# EAGLE library part 12-WAY (library pimoroni-headers)
Header 12 Standard 12-pin 0.1" header. Use with straight break away headers (SKU : PRT-00116), right angle break away headers (PRT-00553), swiss pins (PRT-00743), machine pins (PRT-00117), and female headers (PRT-00115).
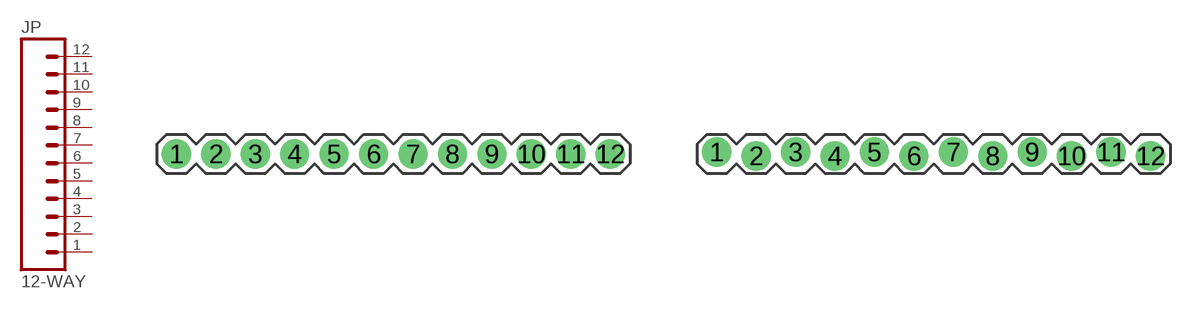
[diagram p3: symbol with the pads of 1X12; footprints 1X12, 1X12-LOCK-MALE]

Designator prefix JP

## 12-WAY-MALE  [1X12]
1  1  pas
2  2  pas
3  3  pas
4  4  pas
5  5  pas
6  6  pas
7  7  pas
8  8  pas
9  9  pas
10  10  pas
11  11  pas
12  12  pas

## 12-WAY-LOCK-MALE  [1X12-LOCK-MALE]
Pads as for 1X12

## 12-WAY-LOCK-FEMALE  [1X12-LOCK-FEMALE]
Pads as for 1X12

## 12-WAY3.5-SCREW  [1X12-3.5MM-SCREWTERMINAL]
Pads as for 1X12

## 12-WAY3.5-SCREW-NL  [1X12-3.5MM-SCREWTERM-NOLOCK]
Pads as for 1X12

## Footprint 1X12 (pad centres in mm)
drill 1.016 pad 1.88: 1 0,0; 2 2.54,0; 3 5.08,0; 4 7.62,0; 5 10.16,0; 6 12.7,0; 7 15.24,0; 8 17.78,0; 9 20.32,0; 10 22.86,0; 11 25.4,0; 12 27.94,0

## Footprint 1X12-LOCK-MALE (pad centres in mm)
drill 1.016 pad 1.88: 1 0,0.127; 2 2.54,-0.127; 3 5.08,0.127; 4 7.62,-0.127; 5 10.16,0.127; 6 12.7,-0.127; 7 15.24,0.127; 8 17.78,-0.127; 9 20.32,0.127; 10 22.86,-0.127; 11 25.4,0.127; 12 27.94,-0.127

## Footprint 1X12-LOCK-FEMALE (pad centres in mm)
drill 0.9 pad 1.88: 1 -13.97,0.127; 2 -11.43,-0.127; 3 -8.89,0.127; 4 -6.35,-0.127; 5 -3.81,0.127; 6 -1.27,-0.127; 7 1.27,0.127; 8 3.81,-0.127; 9 6.35,0.127; 10 8.89,-0.127; 11 11.43,0.127; 12 13.97,-0.127

## Footprint 1X12-3.5MM-SCREWTERMINAL (pad centres in mm)
drill 1.3 pad 2.184: 1 -19.25,0.25; 2 -15.75,-0.25; 3 -12.25,0.25; 4 -8.75,-0.25; 5 -5.25,0.25; 6 -1.75,-0.25; 7 1.75,0.25; 8 5.25,-0.25; 9 8.75,0.25; 10 12.25,-0.25; 11 15.75,0.25; 12 19.25,-0.25

## Footprint 1X12-3.5MM-SCREWTERM-NOLOCK (pad centres in mm)
drill 1.3 pad 2.184: 1 -19.25,0; 2 -15.75,0; 3 -12.25,0; 4 -8.75,0; 5 -5.25,0; 6 -1.75,0; 7 1.75,0; 8 5.25,0; 9 8.75,0; 10 12.25,0; 11 15.75,0; 12 19.25,0